# Altium footprint library RESISTOR_1530.PcbLib: 1 footprints
Each footprint in its own frame and in the unit in brackets; x right, y up, seen from the top. Pads: shape width x height; smd on the part's side, far side on the other; paste and mask are expansions set on the pad; w line width, h text height; cw(c..) or ccw(c..) is an arc to the next point about the centre after c.
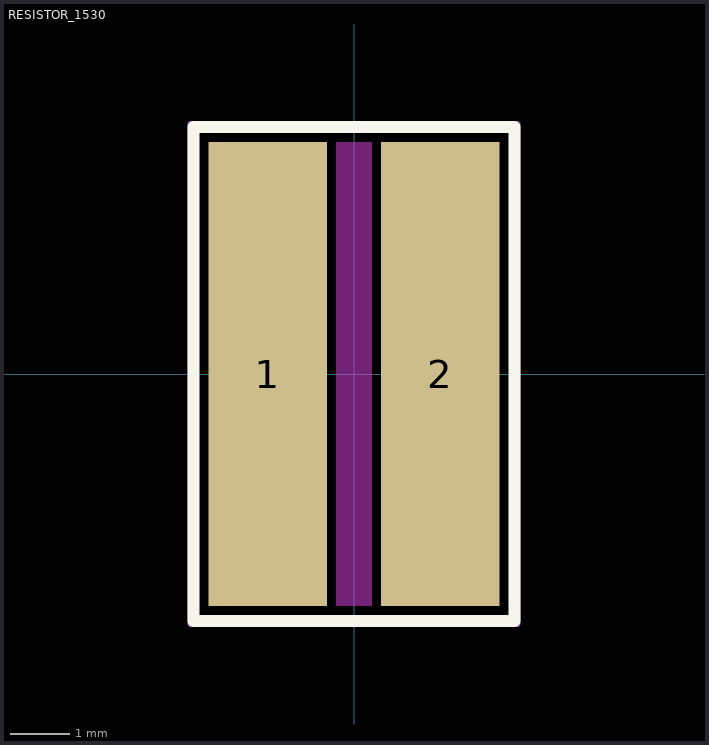
[diagram p0: the footprint, top view; thin cyan lines are the x and y axes]

## RESISTOR_1530 [mm]
pads (2):
  rect 2x7.8 smd: 1(-1.45,0) 2(1.45,0)
Top Layer keep-out:
  region: -0.3,-3.9 -0.3,3.9 0.3,3.9 0.3,-3.9
Top Overlay:
  lines w0.2: -2.7,-4.15 -2.7,4.15 2.7,4.15 2.7,-4.15 -2.7,-4.15
Top Courtyard:
  lines w0.1: -2.75,-4.2 2.75,-4.2 2.75,4.2 -2.75,4.2 -2.75,-4.2
3D body "RES_7638_SUS.step": height 0.7, standoff 0, extent -2,-3.9 2,3.9